# Altium footprint library SIM900.PcbLib: 2 footprints
Each footprint in its own frame and in the unit in brackets; x right, y up, seen from the top. Pads: shape width x height; smd on the part's side, far side on the other; paste and mask are expansions set on the pad; w line width, h text height; cw(c..) or ccw(c..) is an arc to the next point about the centre after c.
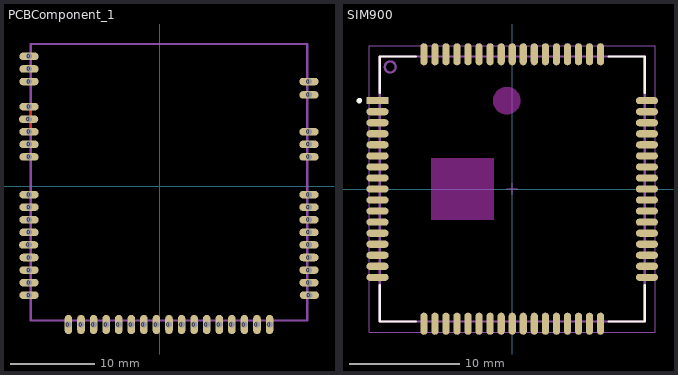
[diagram p0: the footprints below, top view; thin cyan lines are the x and y axes]

## PCBComponent_1 [mm]
pads (48):
  oval 2.3x0.9 hole 0.762: 0(-15.65,-7) 0(-15.65,8) 0(-15.6,-13) 0(-15.6,-11.5) 0(-15.6,-10) 0(-15.6,-8.5) 0(-15.6,-5.5) 0(-15.6,-4) 0(-15.6,-2.5) 0(-15.6,-1) 0(-15.6,3.5) 0(-15.6,5) 0(-15.6,6.5) 0(-15.6,9.5) 0(-15.6,12.5) 0(-15.6,14) 0(-15.6,15.5) 0(17.8,-11.5) 0(17.8,-10) 0(17.8,-8.5) 0(17.8,-7) 0(17.8,-5.5) 0(17.8,-4) 0(17.8,-2.5) 0(17.8,-1) 0(17.8,3.5) 0(17.8,5) 0(17.8,6.5) 0(17.8,12.5) 0(17.8,10.9) 0(17.85,-13)
  oval 0.9x2.3 hole 0.762: 0(-10.9,-16.5) 0(-9.4,-16.5) 0(-7.9,-16.5) 0(-6.4,-16.5) 0(-4.9,-16.5) 0(-3.4,-16.5) 0(-1.9,-16.5) 0(-0.4,-16.5) 0(1.1,-16.5) 0(2.6,-16.5) 0(4.1,-16.5) 0(5.6,-16.5) 0(7.1,-16.5) 0(8.6,-16.5) 0(10.1,-16.5) 0(11.6,-16.5) 0(13.1,-16.5)
Top Layer:
  lines w0.254: -15.9,-7 -15.4,-7 ; -15.9,-4 -15.4,-4 ; -15.9,5 -15.4,5 ; -15.9,6.5 -15.4,6.5 -15.4,8 ; -15.9,8 -15.4,8 ; -15.8,-13 -15.4,-13 ; -15.8,-11.5 -15.4,-11.5 ; -15.8,-10 -15.4,-10 ; -15.8,-8.5 -15.4,-8.5 ; -15.8,-5.5 -15.4,-5.5 ; -15.8,-2.5 -15.4,-2.5 ; -15.8,-1 -15.4,-1 ; -15.8,3.5 -15.4,3.5 ; -15.8,9.5 -15.4,9.5 -15.4,8 ; -15.8,12.5 -15.4,12.5 ; -15.6,14 -15.4,14 ; -10.9,-16.5 -10.9,-16 ; -9.4,-16.5 -9.4,-16 ; -7.9,-16.5 -7.9,-16 ; -6.4,-16.5 -6.4,-16 ; -4.9,-16.5 -4.9,-16 ; -3.4,-16.5 -3.4,-16 ; -1.9,-16.5 -1.9,-16 ; -0.4,-16.5 -0.4,-16 ; 1.1,-16.6 1.1,-16 ; 2.6,-16.5 2.6,-16 ; 4.1,-16.5 4.1,-16 ; 5.6,-16.5 5.6,-16 ; 7.1,-16.5 7.1,-16 ; 8.6,-16.5 8.6,-16 ; 10.1,-16.5 10.1,-16 ; 11.6,-16.5 11.6,-16 ; 13.1,-16.5 13.1,-16 ; 17.6,-13 18.1,-13 ; 17.6,-11.5 18.1,-11.5 ; 17.6,-10 18.1,-10 ; 17.6,-8.5 18.1,-8.5 ; 17.6,-7 18.1,-7 ; 17.6,-5.5 18.1,-5.5 ; 17.6,-4 18.1,-4 ; 17.6,-2.5 18.1,-2.5 ; 17.6,-1 18.1,-1 ; 17.6,3.5 18.1,3.5 ; 17.6,5 18.1,5 ; 17.6,6.5 18.1,6.5 ; 17.6,12.5 18.1,12.5 ; 17.8,12.5 17.8,12.5
Mechanical 13:
  lines w0.254: -15.4,-16 17.6,-16 17.6,17 -15.4,17 -15.4,-16
  text ".Designator" at -6,10.6 h1.52

## SIM900 [mm] "QFN, 68-Leads, Body 24,0x24,0mm (max), Pitch 1,00mm, IPC Low Density"
height 1
pads (68):
  rect 2x0.65 smd: 1(-12.2,8)
  oval 2x0.65 smd: 2(-12.2,7) 3(-12.2,6) 4(-12.2,5) 5(-12.2,4) 6(-12.2,3) 7(-12.2,2) 8(-12.2,1) 9(-12.2,0) 10(-12.2,-1) 11(-12.2,-2) 12(-12.2,-3) 13(-12.2,-4) 14(-12.2,-5) 15(-12.2,-6) 16(-12.2,-7) 17(-12.2,-8) 35(12.2,-8) 36(12.2,-7) 37(12.2,-6) 38(12.2,-5) 39(12.2,-4) 40(12.2,-3) 41(12.2,-2) 42(12.2,-1) 43(12.2,0) 44(12.2,1) 45(12.2,2) 46(12.2,3) 47(12.2,4) 48(12.2,5) 49(12.2,6) 50(12.2,7) 51(12.2,8)
  oval 0.65x2 smd: 18(-8,-12.2) 19(-7,-12.2) 20(-6,-12.2) 21(-5,-12.2) 22(-4,-12.2) 23(-3,-12.2) 24(-2,-12.2) 25(-1,-12.2) 26(0,-12.2) 27(1,-12.2) 28(2,-12.2) 29(3,-12.2) 30(4,-12.2) 31(5,-12.2) 32(6,-12.2) 33(7,-12.2) 34(8,-12.2) 52(8,12.2) 53(7,12.2) 54(6,12.2) 55(5,12.2) 56(4,12.2) 57(3,12.2) 58(2,12.2) 59(1,12.2) 60(0,12.2) 61(-1,12.2) 62(-2,12.2) 63(-3,12.2) 64(-4,12.2) 65(-5,12.2) 66(-6,12.2) 67(-7,12.2) 68(-8,12.2)
Top Layer keep-out:
  circle w1.5: c-0.5,8 r0.5
  rectangle: -7.366,-2.794 -1.651,2.794
Top Overlay:
  circle w0.25: c-13.841,8.001 r0.125
  lines w0.2: -12,-8.725 -12,-12 -8.725,-12 ; -12,8.725 -12,12 -8.725,12 ; 8.725,-12 12,-12 12,-8.725 ; 8.725,12 12,12 12,8.725
Mechanical 13:
  circle w0.2: c-11.05,11.05 r0.5
  lines w0.2: -12,-12 12,-12 12,12 -12,12 -12,-12
  text ".Designator" at -9.144,8.763 h1.5
Mechanical 15:
  lines w0.1: -0.5,0 0.5,0 ; 0,-0.5 0,0.5 ; -12.95,-12.95 12.95,-12.95 12.95,12.95 -12.95,12.95 -12.95,-12.95
3D body: height 3, standoff 0, extent -12,-12 12,12